# Altium schematic symbol library R0402.SchLib: 6 symbols
Pins are listed as number, name and electrical type; pins without a type are passive.

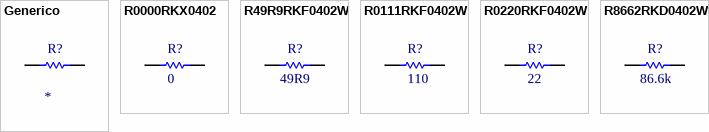
[diagram p0: symbols Generico to R8662RKD0402W]

## Generico
designator R?
Frequency: NC; Manufacturer Part Number: *; Working Temperature: *; Temperature Coefficient: *; Mounting: *; Short Description: *; Power: *; Ratings: *; Type: NC; Alternate Part Number 1: *; Alternate Part Number 2: *; Manufacturer: *; Tolerance: *; Current: NC; Revision Date: *; Package Reference: *; Voltage: NC; Value: *
footprint R0402 (Footprint not found)
footprint R0402 _SMALL
pins: 1, 2

## R0000RKX0402
designator R?  value 0
0 Ohms Jumper 0.063W, 1/16W Chip Resistor 0402 (1005 Metric) Automotive AEC-Q200, Moisture Resistant Thick Film; Manufacturer Part Number: AC0402JR-070RL; Manufacturer: Yageo; Working Temperature: -55°C ~ 155°C; Short Description: RES SMD 0 OHM JUMPER 1/16W 0402; Ratings: REACH, ROHS3, AEC-Q200; Frequency: NC; Temperature Coefficient: *; Mounting: SMT; Power: 1/16W; Type: NC; Alternate Part Number 1: *; Alternate Part Number 2: *; Tolerance: *; Current: NC; Revision Date: 02/08/21; Package Reference: 0402; Voltage: NC
footprint R0402 (Footprint not found)
footprint R0402 _SMALL
pins: 1, 2

## R49R9RKF0402W
designator R?  value 49R9
49.9 Ohms ±1% 0.063W, 1/16W Chip Resistor 0402 (1005 Metric) Automotive AEC-Q200, Moisture Resistant Thick Film; Manufacturer Part Number: AC0402FR-0749R9L; Manufacturer: Yageo; Working Temperature: -55°C ~ 155°C; Temperature Coefficient: ±100ppm/°C; Short Description: RES SMD 49.9 OHM 1% 1/16W 0402; Ratings: REACH, ROHS3, AEC-Q200; Frequency: NC; Mounting: SMT; Power: 1/16W; Type: NC; Alternate Part Number 1: *; Alternate Part Number 2: *; Tolerance: ±1%; Current: NC; Revision Date: 05/05/23; Package Reference: 0402; Voltage: NC
footprint R0402 _SMALL_SMALL (Footprint not found)
pins: 1, 2

## R0111RKF0402W
designator R?  value 110
110 Ohms ±1% 0.063W, 1/16W Chip Resistor 0402 (1005 Metric) Automotive AEC-Q200 Thick Film; Manufacturer Part Number: RMCF0402FT110R; Manufacturer: Stackpole Electronics Inc; Working Temperature: -55°C ~ 155°C; Temperature Coefficient: ±100ppm/°C; Short Description: RES 110 OHM 1% 1/16W 0402; Ratings: REACH, ROHS3; Frequency: NC; Mounting: SMT; Power: 1/16W; Type: NC; Alternate Part Number 1: *; Alternate Part Number 2: *; Tolerance: ±1%; Current: NC; Revision Date: 02/08/21; Package Reference: 0402; Voltage: NC
footprint R0402 (Footprint not found)
footprint R0402 _SMALL
pins: 1, 2

## R0220RKF0402W
designator R?  value 22
22 Ohms ±1% 0.063W, 1/16W Chip Resistor 0402 (1005 Metric) Moisture Resistant Thick Film; Manufacturer Part Number: RC0402FR-0722RL; Manufacturer: Yageo; Working Temperature: -55°C ~ 155°C; Temperature Coefficient: ±100ppm/°C; Short Description: RES SMD 22 OHM 1% 1/16W 0402; Ratings: REACH, ROHS3; Frequency: NC; Mounting: SMT; Power: 1/16W; Type: NC; Alternate Part Number 1: *; Alternate Part Number 2: *; Tolerance: ±1%; Current: NC; Revision Date: 02/08/21; Package Reference: 0402; Voltage: NC
footprint R0402 (Footprint not found)
footprint R0402 _SMALL
pins: 1, 2

## R8662RKD0402W
designator R?  value 86.6k
86.6 kOhms ±0.5% 0.063W, 1/16W Chip Resistor 0402 (1005 Metric) - Thin Film; Manufacturer Part Number: RR0510P-8662-D; Manufacturer: Susumu; Working Temperature: -55°C ~ 125°C; Temperature Coefficient: ±25ppm/°C; Short Description: RES SMD 86.6KOHM 0.5% 1/16W 0402; Ratings: REACH, ROHS3; Frequency: NC; Mounting: SMT; Power: 1/16W; Type: NC; Alternate Part Number 1: *; Alternate Part Number 2: *; Tolerance: ±0.5%; Current: NC; Revision Date: 02/08/21; Package Reference: 0402; Voltage: NC
footprint R0402 (Footprint not found)
pins: 1, 2